# EAGLE library part ST232 (library Schuyler)
RS232 to CMOS/TTL dual transceiver.
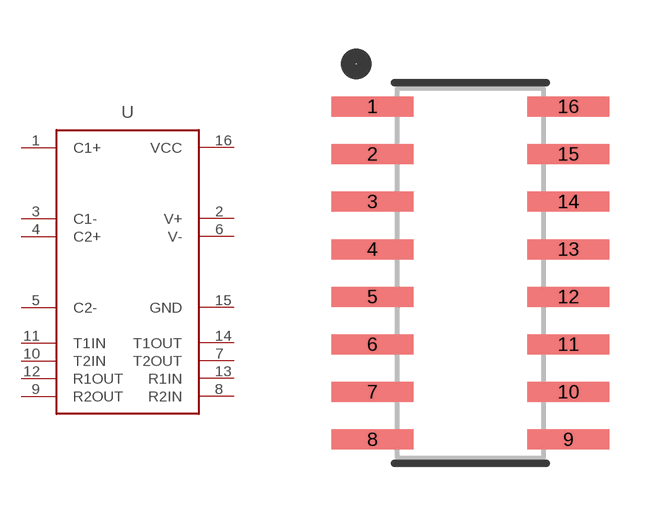
[diagram p25: symbol with the pads of SO-16_SSG; footprint SO-16_SSG]

Designator prefix -

## ST232 (MANPARTNUMBER: ST232CDR; MANUFACTURER: STMicroelectronics; PARTNUMBER: 497-6529-1-ND; SUPPLIER: DIGIKEY)  [SO-16_SSG]
1  C1+
2  V+  pas
3  C1-
4  C2+
5  C2-
6  V-  pas
7  T2OUT  out
8  R2IN  in
9  R2OUT  out
10  T2IN  in
11  T1IN  in
12  R1OUT  out
13  R1IN  in
14  T1OUT  out
15  GND  pas
16  VCC  pas

## Footprint SO-16_SSG (pad centres in mm)
SO-16 as described by STMicro. http://www.st.com/web/en/resource/technical/document/datasheet/CD00001703.pdf
smd 2.184 x 0.533: 1 -2.616,4.445; 2 -2.616,3.175; 3 -2.616,1.905; 4 -2.616,0.635; 5 -2.616,-0.635; 6 -2.616,-1.905; 7 -2.616,-3.175; 8 -2.616,-4.445; 9 2.616,-4.445; 10 2.616,-3.175; 11 2.616,-1.905; 12 2.616,-0.635; 13 2.616,0.635; 14 2.616,1.905; 15 2.616,3.175; 16 2.616,4.445